# Altium schematic symbol library LERTDUWS2WM-JBLA-1LBMA-P4V5A-PMBNA-CQ.SchLib: 1 symbol
Pins are listed as number, name and electrical type; pins without a type are passive.

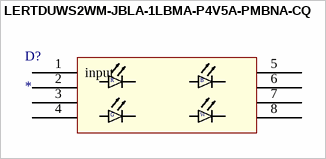
[diagram p0: symbol LERTDUWS2WM-JBLA-1LBMA-P4V5A-PMBNA-CQ]

## LERTDUWS2WM-JBLA-1LBMA-P4V5A-PMBNA-CQ
designator D?
LED OSTAR RGBW 625/527/453NM SMD; Designator: D; Supplier 1: Mouser; Supplier Part Number 1: 720-LERTDUWS2WMA2120
pins: 1 input, 2, 3, 4, 5, 6, 7, 8
text: R; B; G; W